# EAGLE library part ISP-PDI (library U-AVR)
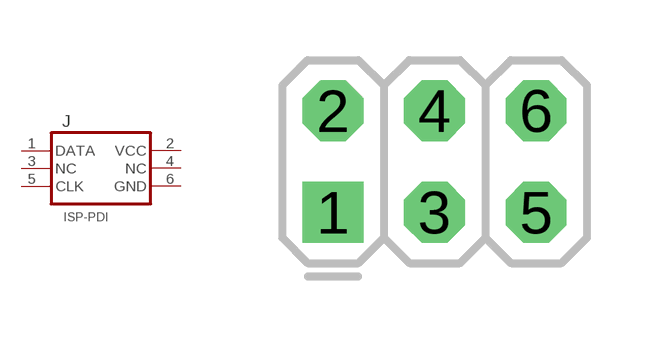
[diagram p4: symbol with the pads of ISP; footprint ISP]

Designator prefix J

## ISP-PDI  [ISP]
1  DATA
2  VCC
3  NC
4  NC
5  CLK
6  GND

## Footprint ISP (pad centres in mm)
drill 1.016 square: 1 0,0
drill 1.016 octagon: 2 0,2.54; 3 2.54,0; 4 2.54,2.54; 5 5.08,0; 6 5.08,2.54